# Altium footprint library UWRT_Footprint_Library_2019.PcbLib: 53 footprints (part 2 of 4)
Each footprint in its own frame and in the unit in brackets; x right, y up, seen from the top. Pads: shape width x height; smd on the part's side, far side on the other; paste and mask are expansions set on the pad; w line width, h text height; cw(c..) or ccw(c..) is an arc to the next point about the centre after c.
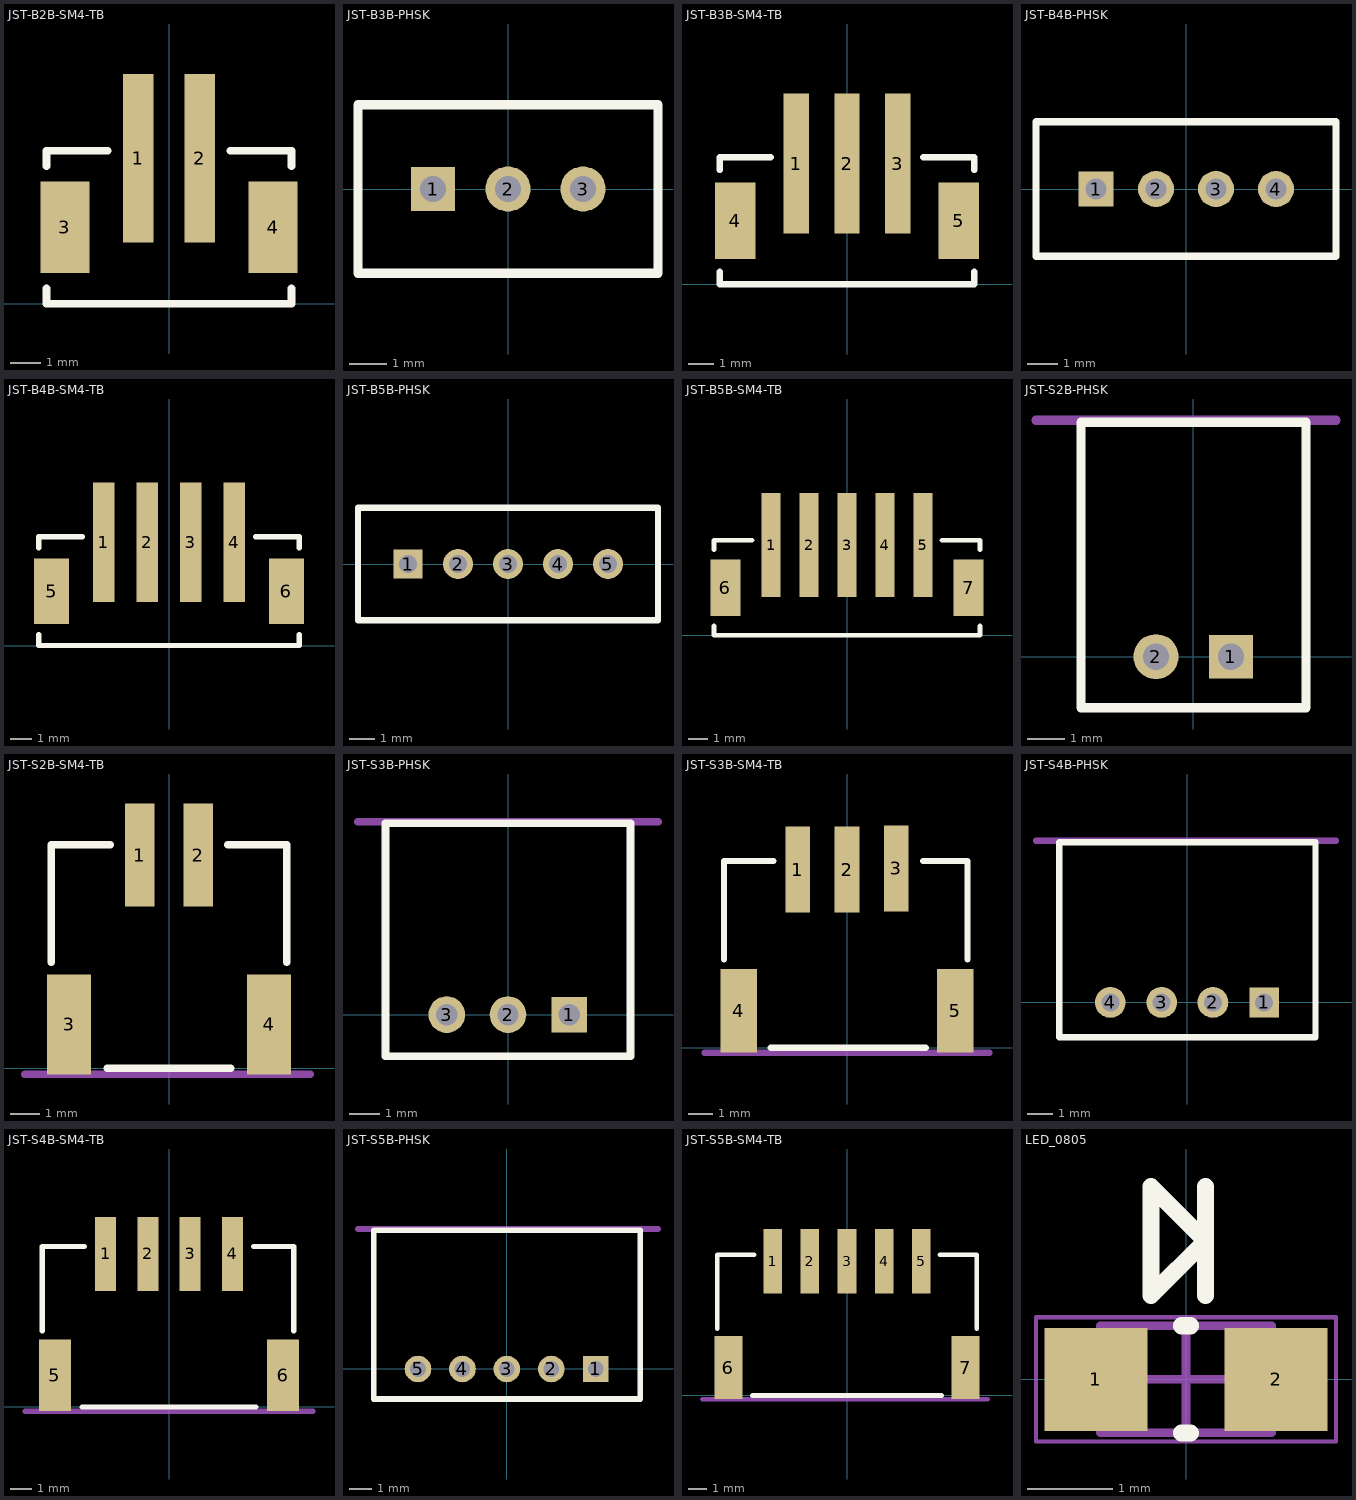
[diagram p1: the footprints below, top view; thin cyan lines are the x and y axes]

## JST-B2B-SM4-TB [mm]
pads (4):
  rect 1x5.5 smd: 1(-1,4.75) 2(1,4.75)
  rect 1.6x3 smd: 3(-3.4,2.5) 4(3.4,2.5)
Top Overlay:
  lines w0.25: -4,0.5 -4,0 4,0 4,0.5 ; -4,4.5 -4,5 -2,5 ; 2,5 4,5 4,4.5

## JST-B3B-PHSK [mm]
pads (3):
  rect 1.162x1.162 / inner rect 1.524x1.524 / far side rect 1.162x1.162 hole 0.7: 1(-2,0)
  round 1.2 / inner round 1.524 / far side round 1.2 hole 0.7: 2(0,0) 3(2,0)
Top Overlay:
  lines w0.25: -4,-2.25 -4,2.25 4,2.25 4,-2.25 -4,-2.25

## JST-B3B-SM4-TB [mm]
pads (5):
  rect 1x5.5 smd: 1(-2,4.75) 2(0,4.75) 3(2,4.75)
  rect 1.6x3 smd: 4(-4.4,2.5) 5(4.4,2.5)
Top Overlay:
  lines w0.25: -5,0.5 -5,0 5,0 5,0.5 ; -5,4.5 -5,5 -3,5 ; 3,5 5,5 5,4.5

## JST-B4B-PHSK [mm]
pads (4):
  rect 1.162x1.162 / inner rect 1.524x1.524 / far side rect 1.162x1.162 hole 0.7: 1(-3,0)
  round 1.2 / inner round 1.524 / far side round 1.2 hole 0.7: 2(-1,0) 3(1,0) 4(3,0)
Top Overlay:
  lines w0.25: -5,-2.25 -5,2.25 5,2.25 5,-2.25 -5,-2.25

## JST-B4B-SM4-TB [mm]
pads (6):
  rect 1x5.5 smd: 1(-3,4.75) 2(-1,4.75) 3(1,4.75) 4(3,4.75)
  rect 1.6x3 smd: 5(-5.4,2.5) 6(5.4,2.5)
Top Overlay:
  lines w0.25: -6,0.5 -6,0 6,0 6,0.5 ; -6,4.5 -6,5 -4,5 ; 4,5 6,5 6,4.5

## JST-B5B-PHSK [mm]
pads (5):
  rect 1.162x1.162 / inner rect 1.524x1.524 / far side rect 1.162x1.162 hole 0.7: 1(-4,0)
  round 1.2 / inner round 1.524 / far side round 1.2 hole 0.7: 2(-2,0) 3(0,0) 4(2,0) 5(4,0)
Top Overlay:
  lines w0.25: -6,-2.25 6,-2.25 6,2.25 -6,2.25 -6,-2.25

## JST-B5B-SM4-TB [mm]
pads (7):
  rect 1x5.5 smd: 1(-4,4.75) 2(-2,4.75) 3(0,4.75) 4(2,4.75) 5(4,4.75)
  rect 1.6x3 smd: 6(-6.4,2.5) 7(6.4,2.5)
Top Overlay:
  lines w0.25: -7,0.5 -7,0 7,0 7,0.5 ; -7,4.5 -7,5 -5,5 ; 5,5 7,5 7,4.5

## JST-S2B-PHSK [mm]
pads (2):
  rect 1.162x1.162 / inner rect 1.524x1.524 / far side rect 1.162x1.162 hole 0.7: 1(1,0)
  round 1.2 / inner round 1.524 / far side round 1.2 hole 0.7: 2(-1,0)
Top Overlay:
  lines w0.25: -3,-1.36 3,-1.36 3,6.25 -3,6.25 -3,-1.36
Mechanical 1:
  lines w0.25: -4.2,6.3 3.8,6.3
  text "BOARD EDGE" at -2.5,6.6 h0.51

## JST-S2B-SM4-TB [mm]
pads (4):
  rect 1x3.5 smd: 1(-1,7.25) 2(1,7.25)
  rect 1.5x3.4 smd: 3(-3.4,1.5) 4(3.4,1.5)
Top Overlay:
  lines w0.25: -4,3.6 -4,7.6 -2,7.6 ; -2.1,0 2.1,0 ; 2,7.6 4,7.6 4,3.6
Mechanical 1:
  lines w0.25: -4.9,-0.2 4.8,-0.2
  text "BOARD EDGE" at -2.6,-1 h0.51

## JST-S3B-PHSK [mm]
pads (3):
  rect 1.162x1.162 / inner rect 1.524x1.524 / far side rect 1.162x1.162 hole 0.7: 1(2,0)
  round 1.2 / inner round 1.524 / far side round 1.2 hole 0.7: 2(0,0) 3(-2,0)
Top Overlay:
  lines w0.25: -4,-1.36 4,-1.36 4,6.25 -4,6.25 -4,-1.36
Mechanical 1:
  lines w0.25: -4.9,6.3 4.9,6.3
  text "BOARD EDGE" at -2.6,6.6 h0.51

## JST-S3B-SM4-TB [mm]
pads (5):
  rect 1x3.5 smd: 1(-2,7.25) 2(0,7.25) 3(2,7.3)
  rect 1.5x3.4 smd: 4(-4.4,1.5) 5(4.4,1.5)
Top Overlay:
  lines w0.25: -5,3.6 -5,7.6 -3,7.6 ; -3.1,0 3.2,0 ; 3.1,7.6 4.9,7.6 4.9,3.6
Mechanical 1:
  lines w0.25: -5.8,-0.2 5.8,-0.2
  text "BOARD EDGE" at -2.3,-1.1 h0.51

## JST-S4B-PHSK [mm]
pads (4):
  rect 1.162x1.162 / inner rect 1.524x1.524 / far side rect 1.162x1.162 hole 0.7: 1(3,0)
  round 1.2 / inner round 1.524 / far side round 1.2 hole 0.7: 2(1,0) 3(-1,0) 4(-3,0)
Top Overlay:
  lines w0.25: -5,-1.35 -5,6.25 5,6.25 5,-1.35 -5,-1.35
Mechanical 1:
  lines w0.25: -5.9,6.3 5.8,6.3
  text "BOARD EDGE" at -2.6,6.6 h0.51

## JST-S4B-SM4-TB [mm]
pads (6):
  rect 1x3.5 smd: 1(-3,7.25) 2(-1,7.25) 3(1,7.25) 4(3,7.25)
  rect 1.5x3.4 smd: 5(-5.4,1.5) 6(5.4,1.5)
Top Overlay:
  lines w0.25: -6,3.6 -6,7.6 -4,7.6 ; -4.1,0 4.1,0 ; 4,7.6 5.9,7.6 5.9,3.6
Mechanical 1:
  lines w0.25: -6.8,-0.2 6.8,-0.2
  text "BOARD EDGE" at -2.3,-1.2 h0.51

## JST-S5B-PHSK [mm]
pads (5):
  rect 1.162x1.162 / inner rect 1.524x1.524 / far side rect 1.162x1.162 hole 0.7: 1(4,0)
  round 1.2 / inner round 1.524 / far side round 1.2 hole 0.7: 2(2,0) 3(0,0) 4(-2,0) 5(-4,0)
Top Overlay:
  lines w0.25: -6,-1.35 6,-1.35 6,6.25 -6,6.25 -6,-1.35
Mechanical 1:
  lines w0.25: -6.7,6.3 6.8,6.3
  text "BOARD EDGE" at -2.7,6.6 h0.51

## JST-S5B-SM4-TB [mm]
pads (7):
  rect 1x3.5 smd: 1(-4,7.25) 2(-2,7.25) 3(0,7.25) 4(2,7.25) 5(4,7.25)
  rect 1.5x3.4 smd: 6(-6.4,1.5) 7(6.4,1.5)
Top Overlay:
  lines w0.25: -7,3.6 -7,7.6 -5,7.6 ; -5.1,0 5.1,0 ; 5,7.6 7,7.6 7,3.6
Mechanical 1:
  lines w0.25: -7.8,-0.2 7.6,-0.2
  text "BOARD EDGE" at -2.7,-1.1 h0.51

## LED_0805 [mm] "SMD, 2-Leads, Body 2x1.25mm"
height 0.8
pads (2):
  rect 1.2x1.2 smd: 1(-1.05,0) 2(1.05,0)
Top Overlay:
  lines w0.2: -0.051,-0.625 0.051,-0.625 ; -0.051,0.625 0.051,0.625 ; 0.227,0.98 0.227,2.25 ; -0.408,0.98 0.227,1.615 -0.408,2.25 -0.408,0.98
Mechanical 13:
  lines w0.1: -0.7,-0.625 -0.7,0.625 ; 0.7,-0.625 0.7,0.625 ; -1,-0.625 -1,0.625 1,0.625 1,-0.625 -1,-0.625
Mechanical 15:
  lines w0.05: -1.75,-0.725 1.75,-0.725 1.75,0.725 -1.75,0.725 -1.75,-0.725
  lines w0.1: -0.5,0 0.5,0 ; 0,-0.5 0,0.5
3D body: height 0.3, standoff 0, extent -1,-0.625 1,0.625
3D body: height 0.8, standoff 0, extent -0.7,-0.625 0.7,0.625